# EAGLE library part TCM1-63AX+ (library My_Library_2)
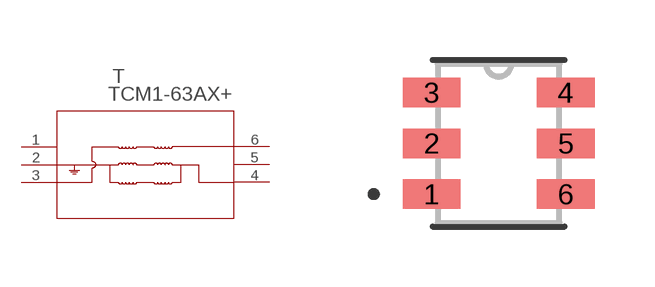
[diagram p1: symbol with the pads of DB1627_MNC; footprint DB1627_MNC]

Designator prefix T

## TCM1-63AX+ (COPYRIGHT: Copyright (C) 2024 Ultra Librarian. All rights reserved.; MANUFACTURER_PART_NUMBER: TCM1-63AX+; MFR_NAME: Mini Circuits)  [DB1627_MNC]
1  1  pas
2  2  pas
3  3  pas
4  4  pas
5  5  pas
6  6  pas

## Footprint DB1627_MNC (pad centres in mm)
smd 1.448 x 0.737: 1 -1.676,-1.27; 2 -1.676,0; 3 -1.676,1.27; 4 1.676,1.27; 5 1.676,0; 6 1.676,-1.27